# Altium schematic symbol library Schlib1.SchLib: 17 symbols
Pins are listed as number, name and electrical type; pins without a type are passive.

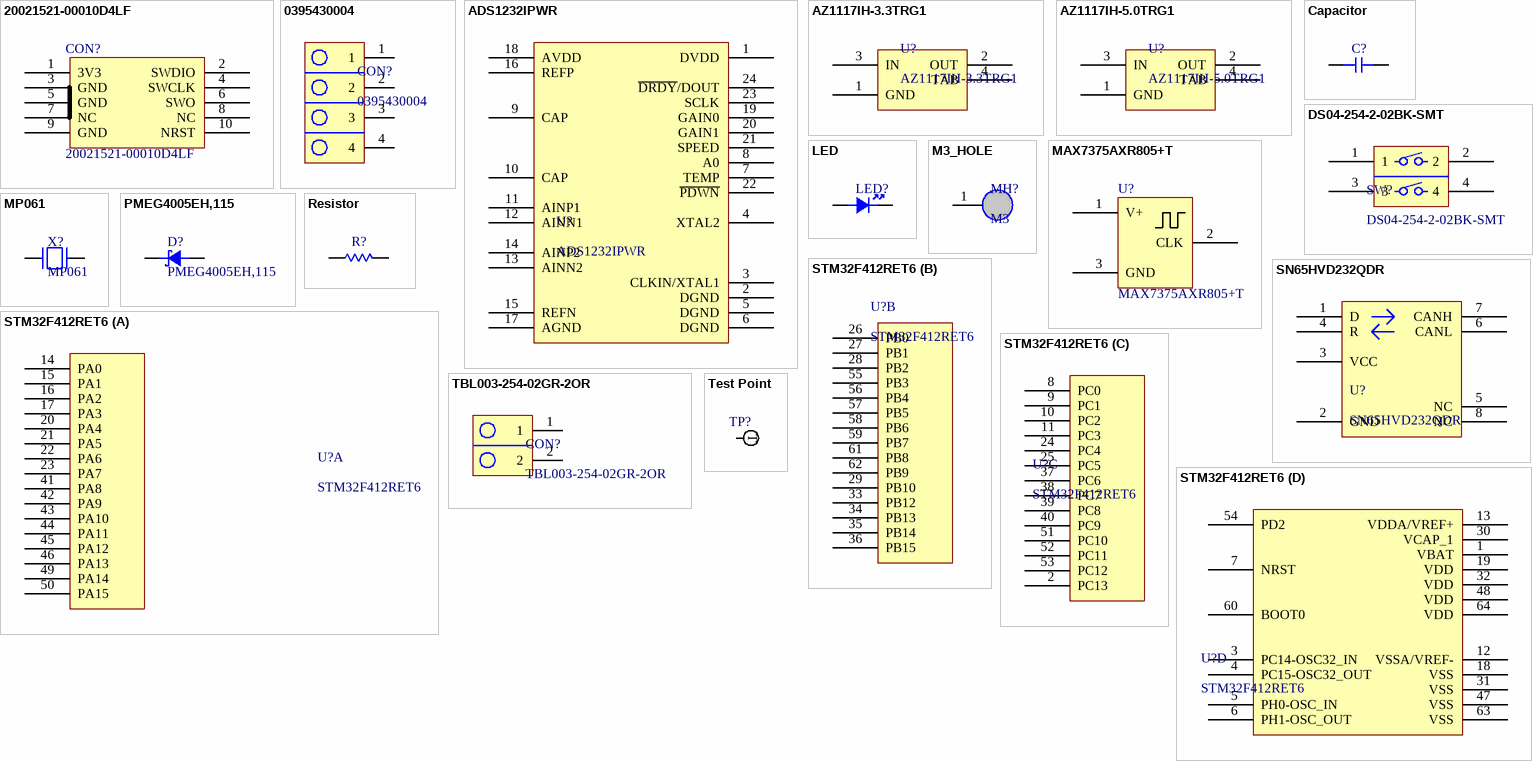
[diagram p0: symbols 20021521-00010D4LF to Test Point]

## 20021521-00010D4LF
designator CON?
CONN HEADER SMD 10POS 1.27MM; Supplier 1: Digi-Key; Supplier Part Number 1: 609-6533-ND
footprint 20021521-00010D4LF (CONN HEADER SMD 10POS 1.27MM)
pins: 1 3V3, 2 SWDIO, 3 GND, 4 SWCLK, 5 GND, 6 SWO, 7 NC, 8 NC, 9 GND, 10 NRST

## 0395430004
designator CON?
TERM BLK 4POS SIDE ENTRY 5MM PCB; Supplier 1: Digi-Key; Supplier Part Number 1: WM13967-ND
footprint 0395430004 (TERM BLK 4POS SIDE ENTRY 5MM PCB)
pins: 1, 2, 3, 4

## ADS1232IPWR
designator U?
IC ADC 24BIT SIGMA-DELTA 24TSSOP; Supplier 1: Digi-Key; Supplier Part Number 1: 296-25894-1-ND
footprint TSOP65P640X120-24N (TSOP, 24-Leads, Body 7.80x4.40mm, Pitch 0.65mm, IPC Medium Density)
pins: 1 DVDD, 2 DGND, 3 CLKIN/XTAL1, 4 XTAL2, 5 DGND, 6 DGND, 7 TEMP, 8 A0, 9 CAP, 10 CAP, 11 AINP1, 12 AINN1, 13 AINN2, 14 AINP2, 15 REFN, 16 REFP, 17 AGND, 18 AVDD, 19 GAIN0, 20 GAIN1, 21 SPEED, 22 ~{PDWN}, 23 SCLK, 24 ~{DRDY}/DOUT

## AZ1117IH-3.3TRG1
designator U?
IC REG LINEAR 3.3V 1A SOT223; Supplier 1: Digi-Key; Supplier Part Number 1: AZ1117IH-3.3TRG1DICT-ND
footprint SOT230P700X180-4N (SOT223, 4-Leads, Body 6.50x7.00mm (avg), Pitch 2.30mm, IPC Medium Density)
pins: 1 GND, 2 OUT, 3 IN, 4 TAB

## AZ1117IH-5.0TRG1
designator U?
IC REG LINEAR 5V 1A SOT223; Supplier 1: Digi-Key; Supplier Part Number 1: AZ1117IH-5.0TRG1DICT-ND
footprint SOT230P700X180-4N (SOT223, 4-Leads, Body 6.50x7.00mm (avg), Pitch 2.30mm, IPC Medium Density)
pins: 1 GND, 2 OUT, 3 IN, 4 TAB

## Capacitor
designator C?  (value not drawn)
Capacitor
footprint 0603-CAP
pins: 1, 2

## DS04-254-2-02BK-SMT
designator SW?
DIP SWITCH, SPST, 2.54 PITCH, FL; Supplier Part Number 1: 2223-DS04-254-2-02BK-SMT-ND; Supplier 1: Digi-Key
footprint DS04-254-2-02BK-SMT (DIP SWITCH, SPST, 2.54 PITCH, FL)
pins: 1, 2, 3, 4

## LED
designator LED?  (value not drawn)
footprint 0603-LED
pins: A, C

## M3_HOLE
designator MH?, comment M3  (no BOM)
M3 MOUNTING HOLE
footprint M3_HOLE
pins: 1

## MAX7375AXR805+T
designator U?
MEMS OSC XO 8.0000MHZ CMOS SMD; Supplier 1: Digi-Key; Supplier Part Number 1: MAX7375AXR805+TCT-ND
footprint SOT65P210X110-3N (SOT23, 3-Leads, Body 2.00x2.10mm, Pitch 0.65mm, IPC Medium Density)
pins: 1 V+, 2 CLK, 3 GND

## MP061
designator X?
CRYSTAL 6.1440MHZ 20PF TH; Supplier 1: Digi-Key; Supplier Part Number 1: CTX054-ND
footprint MP061 (CRYSTAL 6.1440MHZ 20PF TH)
pins: 1, 2

## PMEG4005EH,115
designator D?
DIODE SCHOTTKY 40V 500MA SOD123F; Supplier 1: Digi-Key; Supplier Part Number 1: 1727-3876-1-ND
footprint SODFL350X120-2N (SODFL, 2-Leads, Body 1.60x3.50mm, IPC Medium Density)
pins: 1, 2

## Resistor
designator R?  (value not drawn)
footprint 0603-RES
pins: 1, 2

## SN65HVD232QDR
designator U?
IC TRANSCEIVER HALF 1/1 8SOIC; Supplier 1: Digi-Key; Supplier Part Number 1: 296-52699-1-ND
footprint SOIC127P600X175-8N (SOIC, 8-Leads, Body 4.90x3.90mm, Pitch 1.27mm, IPC Medium Density)
pins: 1 D, 2 GND, 3 VCC, 4 R, 5 NC, 6 CANL, 7 CANH, 8 NC

## STM32F412RET6
designator U?
IC MCU 32BIT 512KB FLASH 64LQFP; Supplier 1: Digi-Key; Supplier Part Number 1: 497-18546-ND
footprint TSQFP50P1200X1200X160-64N (TSQFP, 64-Leads, Body 10.00x10.00mm, Pitch 0.50mm, IPC Medium Density)
part A pins: 14 PA0, 15 PA1, 16 PA2, 17 PA3, 20 PA4, 21 PA5, 22 PA6, 23 PA7, 41 PA8, 42 PA9, 43 PA10, 44 PA11, 45 PA12, 46 PA13, 49 PA14, 50 PA15
part B pins: 26 PB0, 27 PB1, 28 PB2, 29 PB10, 33 PB12, 34 PB13, 35 PB14, 36 PB15, 55 PB3, 56 PB4, 57 PB5, 58 PB6, 59 PB7, 61 PB8, 62 PB9
part C pins: 2 PC13, 8 PC0, 9 PC1, 10 PC2, 11 PC3, 24 PC4, 25 PC5, 37 PC6, 38 PC7, 39 PC8, 40 PC9, 51 PC10, 52 PC11, 53 PC12
part D pins: 1 VBAT, 3 PC14-OSC32_IN, 4 PC15-OSC32_OUT, 5 PH0-OSC_IN, 6 PH1-OSC_OUT, 7 NRST, 12 VSSA/VREF-, 13 VDDA/VREF+, 18 VSS, 19 VDD, 30 VCAP_1, 31 VSS, 32 VDD, 47 VSS, 48 VDD, 54 PD2, 60 BOOT0, 63 VSS, 64 VDD

## TBL003-254-02GR-2OR
designator CON?
TERMINAL BLOCK, SCREWLESS, 2.54,; Supplier 1: Digi-Key; Supplier Part Number 1: 102-6385-ND
footprint TBL003-254-02GR-2OR (TERMINAL BLOCK, SCREWLESS, 2.54,)
pins: 1, 2

## Test Point
designator TP?  (value not drawn)
footprint TP
footprint TP_1.6MM
pins: 1
text: T